# Altium schematic symbol library SCH - POWER - LINEAR VREG - TI LM317ADCY.SchLib: 1 symbol
Pins are listed as number, name and electrical type; pins without a type are passive.

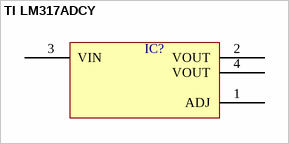
[diagram p0: symbol TI LM317ADCY]

## TI LM317ADCY
designator IC?  (value not drawn)
pins: 1 ADJ, 2 VOUT, 3 VIN, 4 VOUT